# Altium footprint library SamacSys.PcbLib: 3 footprints
Each footprint in its own frame and in the unit in brackets; x right, y up, seen from the top. Pads: shape width x height; smd on the part's side, far side on the other; paste and mask are expansions set on the pad; w line width, h text height; cw(c..) or ccw(c..) is an arc to the next point about the centre after c.
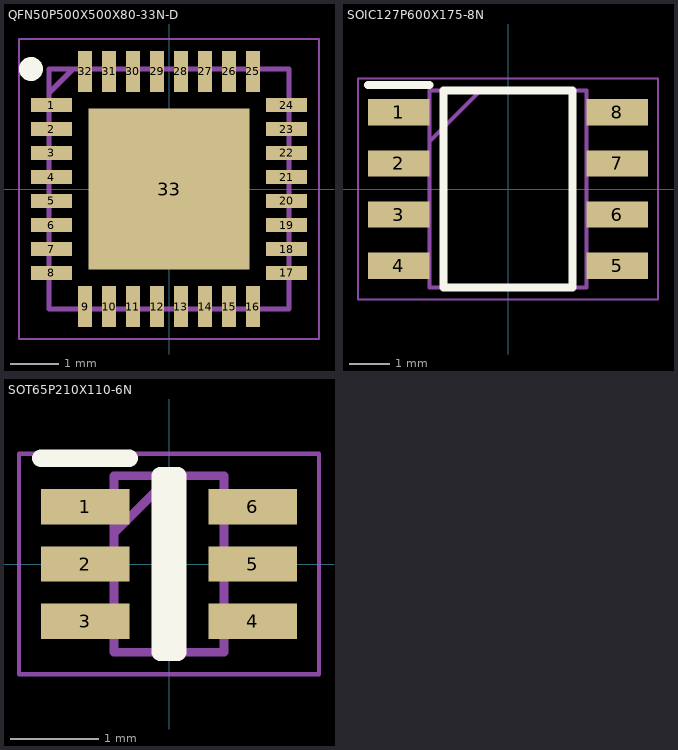
[diagram p0: the footprints below, top view; thin cyan lines are the x and y axes]

## QFN50P500X500X80-33N-D [mm]
pads (33):
  rect 0.85x0.3 smd: 1(-2.45,1.75) 2(-2.45,1.25) 3(-2.45,0.75) 4(-2.45,0.25) 5(-2.45,-0.25) 6(-2.45,-0.75) 7(-2.45,-1.25) 8(-2.45,-1.75) 17(2.45,-1.75) 18(2.45,-1.25) 19(2.45,-0.75) 20(2.45,-0.25) 21(2.45,0.25) 22(2.45,0.75) 23(2.45,1.25) 24(2.45,1.75)
  rect 0.3x0.85 smd: 9(-1.75,-2.45) 10(-1.25,-2.45) 11(-0.75,-2.45) 12(-0.25,-2.45) 13(0.25,-2.45) 14(0.75,-2.45) 15(1.25,-2.45) 16(1.75,-2.45) 25(1.75,2.45) 26(1.25,2.45) 27(0.75,2.45) 28(0.25,2.45) 29(-0.25,2.45) 30(-0.75,2.45) 31(-1.25,2.45) 32(-1.75,2.45)
  rect 3.35x3.35 smd: 33(0,0)
Top Overlay:
  circle w0.25: c-2.875,2.5 r0.125
Mechanical 13:
  lines w0.1: -2.5,2 -2,2.5 ; -2.5,-2.5 2.5,-2.5 2.5,2.5 -2.5,2.5 -2.5,-2.5
Mechanical 15:
  lines w0.05: -3.125,-3.125 3.125,-3.125 3.125,3.125 -3.125,3.125 -3.125,-3.125
3D body "PI4IOE5V6524.stp": height 0.8, standoff 0, extent -2.55,-2.55 2.55,2.55

## SOIC127P600X175-8N [mm]
pads (8):
  rect 1.525x0.65 smd: 1(-2.712,1.905) 2(-2.712,0.635) 3(-2.712,-0.635) 4(-2.712,-1.905) 5(2.712,-1.905) 6(2.712,-0.635) 7(2.712,0.635) 8(2.712,1.905)
Top Overlay:
  lines w0.2: -3.475,2.58 -1.95,2.58 ; -1.6,-2.45 1.6,-2.45 1.6,2.45 -1.6,2.45 -1.6,-2.45
Mechanical 13:
  lines w0.1: -1.95,1.18 -0.68,2.45 ; -1.95,-2.45 1.95,-2.45 1.95,2.45 -1.95,2.45 -1.95,-2.45
Mechanical 15:
  lines w0.05: -3.725,-2.75 3.725,-2.75 3.725,2.75 -3.725,2.75 -3.725,-2.75
3D body "NE555DR.stp": height 1.75, standoff 0, extent -3,-2.45 3,2.45

## SOT65P210X110-6N [mm]
pads (6):
  rect 1x0.4 smd: 1(-0.95,0.65) 2(-0.95,0) 3(-0.95,-0.65) 4(0.95,-0.65) 5(0.95,0) 6(0.95,0.65)
Top Overlay:
  lines w0.2: -1.45,1.2 -0.45,1.2 ; -0.1,-1 -0.1,1 0.1,1 0.1,-1 -0.1,-1
Mechanical 13:
  lines w0.1: -0.625,0.35 0.025,1 ; -0.625,-1 -0.625,1 0.625,1 0.625,-1 -0.625,-1
Mechanical 15:
  lines w0.05: -1.7,-1.25 -1.7,1.25 1.7,1.25 1.7,-1.25 -1.7,-1.25
3D body "MBT3904DW1T1.stp": height 1.05, standoff -1.05, extent -1,-0.7 1,0.3